# EAGLE library part MCP2551 (library Microchip)
High Speed CAN Transceiver
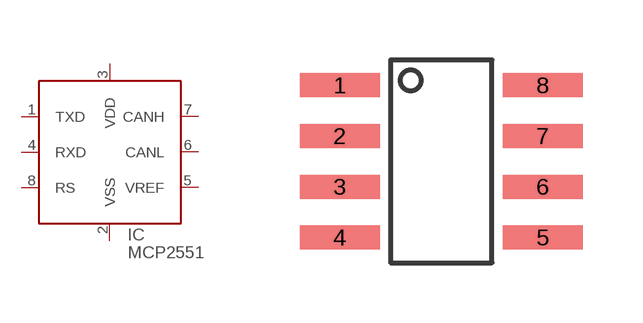
[diagram p32: symbol with the pads of SOIC8-SN; footprint SOIC8-SN]

Designator prefix IC

## MCP2551-SN  [SOIC8-SN]
1  TXD
2  VSS
3  VDD
4  RXD
5  VREF
6  CANL
7  CANH
8  RS

## Footprint SOIC8-SN (pad centres in mm)
8-Lead Plastic Small Outline (SN) - Narrow, 3.90 mm body (SOIC)
smd 2 x 0.6: 1 -2.54,1.905; 2 -2.54,0.635; 3 -2.54,-0.635; 4 -2.54,-1.905; 5 2.54,-1.905; 6 2.54,-0.635; 7 2.54,0.635; 8 2.54,1.905